# EAGLE library part ESP-32S-ADAPTER-BREAKOUT (library ESP-32s-adapter-breakout)
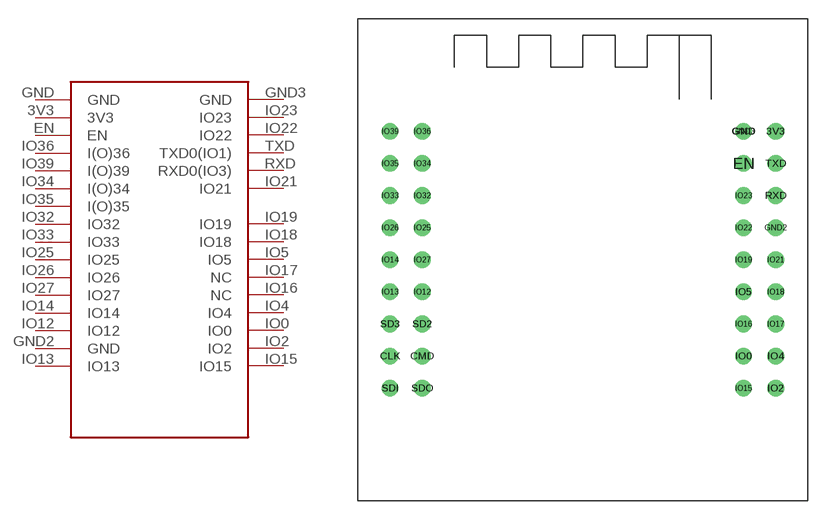
[diagram p0: symbol with the pads of ESP-32S-ADAPTER-PCB; footprint ESP-32S-ADAPTER-PCB]

Designator prefix ESP-32S-ADAPTER-PCB

## ESP-32S-ADAPTER-BREAKOUT  [ESP-32S-ADAPTER-PCB]
3V3  3V3
EN  EN
GND  GND
GND2  GND
GND3  GND
IO0  IO0
IO2  IO2
IO4  IO4
IO5  IO5
IO12  IO12
IO13  IO13
IO14  IO14
IO15  IO15
IO16  NC
IO17  NC
IO18  IO18
IO19  IO19
IO21  IO21
IO22  IO22
IO23  IO23
IO25  IO25
IO26  IO26
IO27  IO27
IO32  IO32
IO33  IO33
IO34  I(O)34
IO35  I(O)35
IO36  I(O)36
IO39  I(O)39
RXD  RXD0(IO3)
TXD  TXD0(IO1)

## Footprint ESP-32S-ADAPTER-PCB (pad centres in mm)
drill 0.8: 3V3 15.24,10.16; CLK -15.24,-7.62; CMD -12.7,-7.62; EN 12.7,7.62; GND 12.7,10.16; GND2 15.24,2.54; GND3 12.7,10.16; IO0 12.7,-7.62; IO2 15.24,-10.16; IO4 15.24,-7.62; IO5 12.7,-2.54; IO12 -12.7,-2.54; IO13 -15.24,-2.54; IO14 -15.24,0; IO15 12.7,-10.16; IO16 12.7,-5.08; IO17 15.24,-5.08; IO18 15.24,-2.54; IO19 12.7,0; IO21 15.24,0; IO22 12.7,2.54; IO23 12.7,5.08; IO25 -12.7,2.54; IO26 -15.24,2.54; IO27 -12.7,0; IO32 -12.7,5.08; IO33 -15.24,5.08; IO34 -12.7,7.62; IO35 -15.24,7.62; IO36 -12.7,10.16; IO39 -15.24,10.16; RXD 15.24,5.08; SD2 -12.7,-5.08; SD3 -15.24,-5.08; SDI -15.24,-10.16; SDO -12.7,-10.16; TXD 15.24,7.62